# Altium integrated library WCAP-PSLP.IntLib: 57 symbols (part 2 of 2)
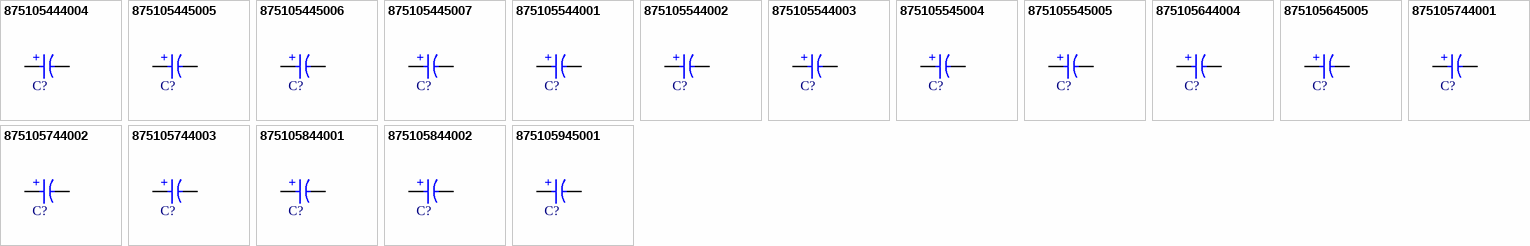
[diagram p2: symbols 875105444004 to 875105945001]

## 875105744001
designator C?, comment 8.2µF  (value not drawn)
WCAP-PSLP Aluminum Polymer Capacitor, V-Chip SMT, D6.3 x H5.8mm, 8.2µF, 50V; Manufacturer Part Number: 875105744001; Manufacturer: Wurth Elektronik; Capacitance Tolerance: +/-20%; Dissipation Factor: 12%; Endurance: 2000h; ESR: 80mΩ; Leakage Current: 600µA; Ripple Current: 800mA; Technical Reference: PSED0588R2M050DVCTBB000; Category: Aluminum Polymer Capacitors; Match Code: WCAP-PSLP; ComponentLink1Description: Website Link; ComponentLink1URL: https://www.we-online.com/redexpert/article/875105744001?ad; ComponentLink2Description: Datasheet Link; ComponentLink2URL: https://www.we-online.com/redexpert/spec/875105744001?ad; Mount: Surface Mount; Operating Temperature Max: 105°C; Operating Temperature Min: -55°C; Packaging: Tape and Reel; Height: 5.8mm; Diameter: 6.3mm; Capacitance: 8.2µF; Rated Voltage (DC): 50V
footprint WCAP-PSLP_D6.3H5.8
simulation model 875105744001_8.2uF
pins: 1 P, 2 N
text: +

## 875105744002
designator C?, comment 12µF  (value not drawn)
WCAP-PSLP Aluminum Polymer Capacitor, V-Chip SMT, D6.3 x H5.8mm, 12µF, 50V; Manufacturer Part Number: 875105744002; Manufacturer: Wurth Elektronik; Capacitance Tolerance: +/-20%; Dissipation Factor: 12%; Endurance: 2000h; ESR: 80mΩ; Leakage Current: 600µA; Ripple Current: 800mA; Technical Reference: PSED058120M050DVCTBB000; Category: Aluminum Polymer Capacitors; Match Code: WCAP-PSLP; ComponentLink1Description: Website Link; ComponentLink1URL: https://www.we-online.com/redexpert/article/875105744002?ad; ComponentLink2Description: Datasheet Link; ComponentLink2URL: https://www.we-online.com/redexpert/spec/875105744002?ad; Mount: Surface Mount; Operating Temperature Max: 105°C; Operating Temperature Min: -55°C; Packaging: Tape and Reel; Height: 5.8mm; Diameter: 6.3mm; Capacitance: 12µF; Rated Voltage (DC): 50V
footprint WCAP-PSLP_D6.3H5.8
simulation model 875105744002_12uF
pins: 1 P, 2 N
text: +

## 875105744003
designator C?, comment 15µF  (value not drawn)
WCAP-PSLP Aluminum Polymer Capacitor, V-Chip SMT, D6.3 x H5.8mm, 15µF, 50V; Manufacturer Part Number: 875105744003; Manufacturer: Wurth Elektronik; Capacitance Tolerance: +/-20%; Dissipation Factor: 12%; Endurance: 2000h; ESR: 80mΩ; Leakage Current: 600µA; Ripple Current: 800mA; Technical Reference: PSED058150M050DVCTBB000; Category: Aluminum Polymer Capacitors; Match Code: WCAP-PSLP; ComponentLink1Description: Website Link; ComponentLink1URL: https://www.we-online.com/redexpert/article/875105744003?ad; ComponentLink2Description: Datasheet Link; ComponentLink2URL: https://www.we-online.com/redexpert/spec/875105744003?ad; Mount: Surface Mount; Operating Temperature Max: 105°C; Operating Temperature Min: -55°C; Packaging: Tape and Reel; Height: 5.8mm; Diameter: 6.3mm; Capacitance: 15µF; Rated Voltage (DC): 50V
footprint WCAP-PSLP_D6.3H5.8
simulation model 875105744003_15uF
pins: 1 P, 2 N
text: +

## 875105844001
designator C?, comment 5.6µF  (value not drawn)
WCAP-PSLP Aluminum Polymer Capacitor, V-Chip SMT, D6.3 x H5.8mm, 5.6µF, 63V; Manufacturer Part Number: 875105844001; Manufacturer: Wurth Elektronik; Capacitance Tolerance: +/-20%; Dissipation Factor: 12%; Endurance: 2000h; ESR: 100mΩ; Leakage Current: 600µA; Ripple Current: 700mA; Technical Reference: PSED0585R6M063DVCTBB000; Category: Aluminum Polymer Capacitors; Match Code: WCAP-PSLP; ComponentLink1Description: Website Link; ComponentLink1URL: https://www.we-online.com/redexpert/article/875105844001?ad; ComponentLink2Description: Datasheet Link; ComponentLink2URL: https://www.we-online.com/redexpert/spec/875105844001?ad; Mount: Surface Mount; Operating Temperature Max: 105°C; Operating Temperature Min: -55°C; Packaging: Tape and Reel; Height: 5.8mm; Diameter: 6.3mm; Capacitance: 5.6µF; Rated Voltage (DC): 63V
footprint WCAP-PSLP_D6.3H5.8
simulation model 875105844001_5.6uF
pins: 1 P, 2 N
text: +

## 875105844002
designator C?, comment 8.2µF  (value not drawn)
WCAP-PSLP Aluminum Polymer Capacitor, V-Chip SMT, D6.3 x H5.8mm, 8.2µF, 63V; Manufacturer Part Number: 875105844002; Manufacturer: Wurth Elektronik; Capacitance Tolerance: +/-20%; Dissipation Factor: 12%; Endurance: 2000h; ESR: 100mΩ; Leakage Current: 600µA; Ripple Current: 700mA; Technical Reference: PSED0588R2M063DVCTBB000; Category: Aluminum Polymer Capacitors; Match Code: WCAP-PSLP; ComponentLink1Description: Website Link; ComponentLink1URL: https://www.we-online.com/redexpert/article/875105844002?ad; ComponentLink2Description: Datasheet Link; ComponentLink2URL: https://www.we-online.com/redexpert/spec/875105844002?ad; Mount: Surface Mount; Operating Temperature Max: 105°C; Operating Temperature Min: -55°C; Packaging: Tape and Reel; Height: 5.8mm; Diameter: 6.3mm; Capacitance: 8.2µF; Rated Voltage (DC): 63V
footprint WCAP-PSLP_D6.3H5.8
simulation model 875105844002_8.2uF
pins: 1 P, 2 N
text: +

## 875105945001
designator C?, comment 4.7µF  (value not drawn)
WCAP-PSLP Aluminum Polymer Capacitor, V-Chip SMT, D6.3 x H7.7mm, 4.7µF, 100V; Manufacturer Part Number: 875105945001; Manufacturer: Wurth Elektronik; Capacitance Tolerance: +/-20%; Dissipation Factor: 12%; Endurance: 2000h; ESR: 100mΩ; Leakage Current: 600µA; Ripple Current: 1060mA; Technical Reference: PSED0774R7M100DVCTCB000; Category: Aluminum Polymer Capacitors; Match Code: WCAP-PSLP; ComponentLink1Description: Website Link; ComponentLink1URL: https://www.we-online.com/redexpert/article/875105945001?ad; ComponentLink2Description: Datasheet Link; ComponentLink2URL: https://www.we-online.com/redexpert/spec/875105945001?ad; Mount: Surface Mount; Operating Temperature Max: 105°C; Operating Temperature Min: -55°C; Packaging: Tape and Reel; Height: 7.7mm; Diameter: 6.3mm; Capacitance: 4.7µF; Rated Voltage (DC): 100V
footprint WCAP-PSLP_D6.3H7.7
simulation model 875105945001_4.7uF
pins: 1 P, 2 N
text: +